# Altium schematic symbol library XTAL OSC 25MHz 3.3V.Schlib: 1 symbol
Pins are listed as number, name and electrical type; pins without a type are passive.

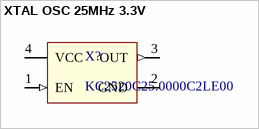
[diagram p0: symbol XTAL OSC 25MHz 3.3V]

## XTAL OSC 25MHz 3.3V
designator X?, comment KC2520C25.0000C2LE00
Oscillator XO 25MHz ±15ppm 15pF CMOS 55% 2.5V/3.3V 4-Pin Mini-CSMD T/R
footprint KC2520C25.0000C2LE00
pins: 1 EN (in), 2 GND (power), 3 OUT (out), 4 VCC (power)